# Altium footprint library PcbLib1.PcbLib: 9 footprints
Each footprint in its own frame and in the unit in brackets; x right, y up, seen from the top. Pads: shape width x height; smd on the part's side, far side on the other; paste and mask are expansions set on the pad; w line width, h text height; cw(c..) or ccw(c..) is an arc to the next point about the centre after c.
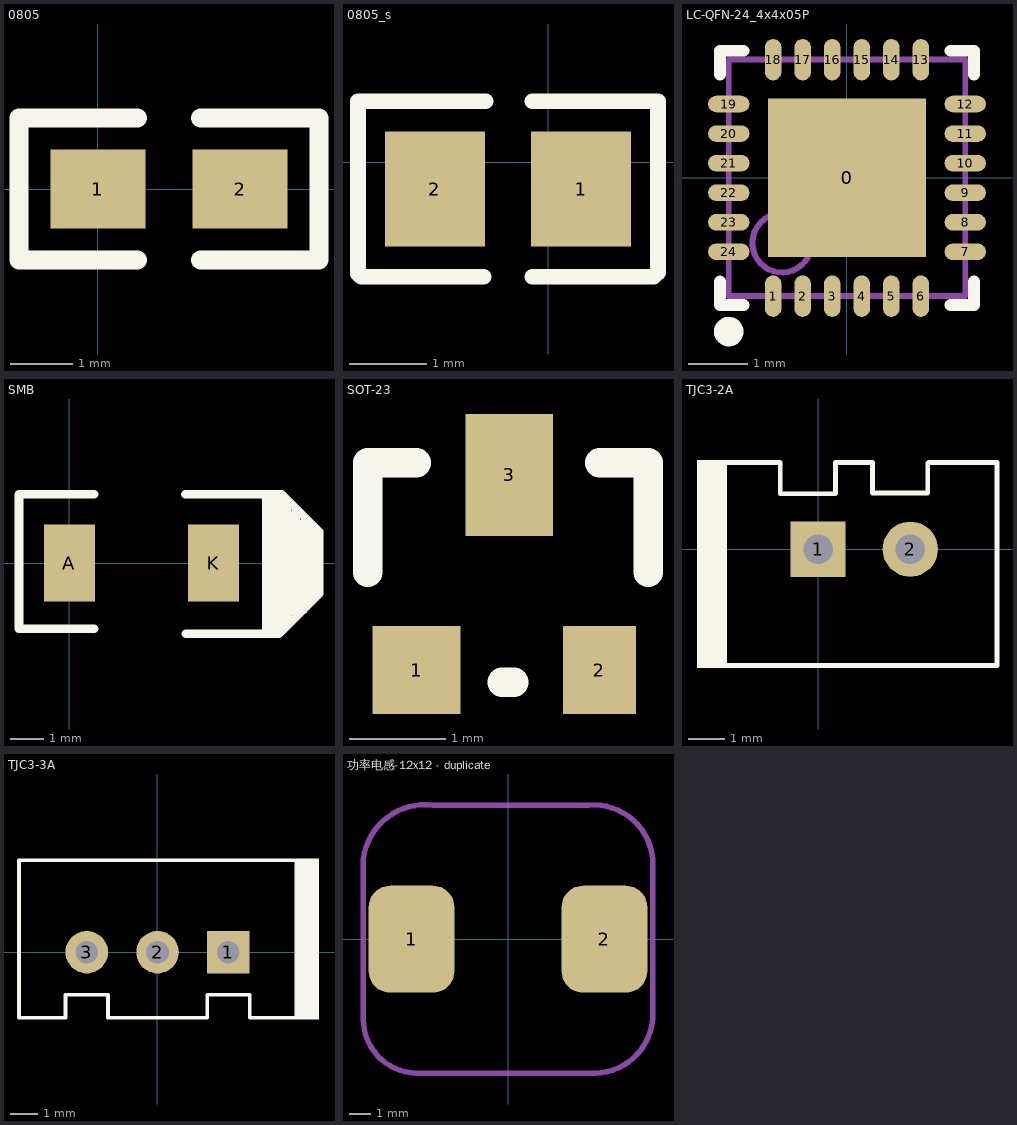
[diagram p0: the footprints below, top view; thin cyan lines are the x and y axes]

## 0805 [mil]
pads (2):
  rect 60x50 smd: 1(0,0) 2(90,0)
Top Overlay:
  lines w12: 25,-45 -50,-45 -50,45 25,45 ; 65,-45 140,-45 140,45 65,45

## 0805_s [mm]
pads (2):
  rect 1.3x1.499 smd: 1(0.425,-0.35) 2(-1.475,-0.35)
Top Overlay:
  lines w0.203: -0.84,-1.493 -2.432,-1.493 -2.475,-1.45 -2.475,0.793 -0.818,0.793 ; -0.21,-1.493 1.368,-1.493 1.425,-1.436 1.425,0.793 -0.21,0.793

## LC-QFN-24_4x4x05P [mm]
pads (25):
  rect 2.68x2.68 smd mask+0.051: 0(0,0)
  oval 0.28x0.7 smd mask+0.051: 1(-1.25,-2) 2(-0.75,-2) 3(-0.25,-2) 4(0.25,-2) 5(0.75,-2) 6(1.25,-2) 13(1.25,2) 14(0.75,2) 15(0.25,2) 16(-0.25,2) 17(-0.75,2) 18(-1.25,2)
  oval 0.7x0.28 smd mask+0.051: 7(2,-1.25) 8(2,-0.75) 9(2,-0.25) 10(2,0.25) 11(2,0.75) 12(2,1.25) 19(-2,1.25) 20(-2,0.75) 21(-2,0.25) 22(-2,-0.25) 23(-2,-0.75) 24(-2,-1.25)
Top Overlay:
  circle w0.25: c-2,-2.6 r0.125
  lines w0.2: -2.15,-1.75 -2.15,-2.15 -1.75,-2.15 ; -2.15,1.75 -2.15,2.15 -1.75,2.15 ; 1.75,-2.15 2.15,-2.15 2.15,-1.75 ; 1.75,2.15 2.15,2.15 2.15,1.75
Mechanical 13:
  circle w0.1: c-1.1,-1.1 r0.5
  lines w0.1: -2,-2 2,-2 2,2 -2,2 -2,-2

## SMB [mm]
pads (2):
  rect 1.52x2.3 smd: A(0,0) K(4.3,0)
Top Overlay:
  rectangle: 7.041,0.737 7.366,1.016
  rectangle: 7.191,0.737 7.214,1.191
  rectangle: 7.041,0.737 7.214,1.341
  rectangle: 6.833,-1.092 7.442,0.94
  rectangle: 6.756,-1.482 7.083,1.299
  rectangle: 6.528,-1.565 6.791,1.575
  rectangle: 6.756,-1.482 6.875,1.626
  rectangle: 6.492,-1.864 6.601,1.781
  rectangle: 6.376,-1.864 6.492,1.956
  rectangle: 6.248,-1.981 6.376,1.956
  rectangle: 5.867,-2.108 6.248,1.956
  lines w0.254: 0.744,-1.956 -1.499,-1.956 -1.499,2.057 0.749,2.057 ; 3.457,2.057 5.766,2.057 ; 3.475,-2.108 5.867,-2.108 ; 5.766,2.057 6.325,2.057 7.366,1.016 7.442,0.94 7.442,-0.914 6.248,-2.108 5.867,-2.108 ; 5.766,2.057 5.867,1.956 5.867,-2.108

## SOT-23 [mil]
pads (3):
  rect 36x36 smd: 1(47.76,-120.28)
  rect 30x36 smd: 2(122.75,-120.28)
  rect 36x50 smd: 3(85.75,-40.28)
Top Overlay:
  lines w12: 27.75,-80.28 27.75,-35.28 47.76,-35.28 ; 82.75,-125.28 87.75,-125.28 ; 122.75,-35.28 142.75,-35.28 142.75,-80.28

## TJC3-2A [mil]
pads (2):
  rect 60x60 hole 32: 1(0,0)
  round 60 hole 32: 2(100,0)
Top Overlay:
  region: -98.84,96.5 -131.17,96.5 -131.17,-128.5 -98.84,-128.5
  lines w5: -105,-126 194,-126 194,94 119.48,94 ; -104,94 -87,94 -41,94 -41,60 19,60 19,94 59,94 59,61 119,61 119,93.52

## TJC3-3A [mil]
pads (3):
  rect 60x60 hole 32: 1(100.17,0)
  round 60 hole 32: 2(0.17,0) 3(-99.83,0)
Top Overlay:
  rectangle: 195.84,-95.1 228.17,132.4
  lines w5: -195.5,-92.52 -129.83,-92.52 -129.83,-60 -69.83,-60 -69.83,-92.52 70.17,-92.52 70.17,-60 130.17,-60 130.17,-92.52 195.84,-92.52 195.84,129.92 -195.5,129.92 -195.5,-92.52

## 功率电感-12x12 - duplicate [mm]
pads (2):
  rrect50% 4x5 smd: 1(-4.5,0) 2(4.5,0)
Mechanical 15:
  lines w0.254: -6.75,-3.75 ccw(c-4.25,-3.75) -4.25,-6.25 3.75,-6.25 ccw(c4,-3.5) 6.75,-3.75 6.75,3.75 ccw(c4,3.5) 3.75,6.25 -3.5,6.25 ccw(c-3.875,3.375) -6.75,3.75 -6.75,-3.75
3D body: height 8, standoff 0, extent -6.084,-6.149 6.215,6.15

## 固定过孔 [mm]
via 0,0 diameter 5 hole 3